# EAGLE library part TCA9536DGKR (library TCA9536DGKR)
TCA9536DGKR Source: Datasheet <https://www.ti.com/lit/ds/symlink/tca9536.pdf?ts=1641403369587&ref_url=https%3A%2F%2Fwww.ti.com%2Fproduct%2FTCA9536>
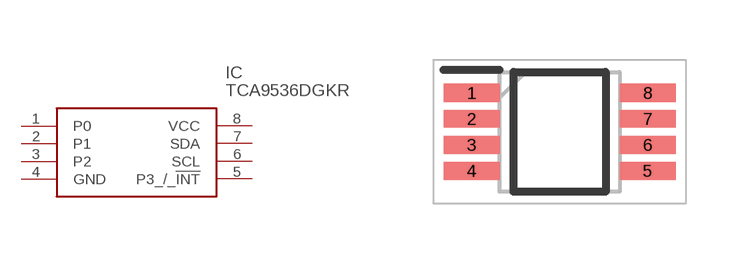
[diagram p0: symbol with the pads of SOP65P490X110-8N; footprint SOP65P490X110-8N]

Designator prefix IC

## TCA9536DGKR (Arrow_Part_Number: TCA9536DGKR; Arrow_Price-Stock: https://www.arrow.com/en/products/tca9536dgkr/texas-instruments?region=nac; Description: TCA9536DGKR; Height: 1.1mm; Manufacturer_Name: Texas Instruments; Manufacturer_Part_Number: TCA9536DGKR; Mouser_Part_Number: 595-TCA9536DGKR; Mouser_Price-Stock: https://www.mouser.co.uk/ProductDetail/Texas-Instruments/TCA9536DGKR?qs=doiCPypUmgHJyc0NMelqCA%3D%3D)  [SOP65P490X110-8N]
1  P0
2  P1
3  P2
4  GND
5  P3_/_!INT
6  SCL
7  SDA
8  VCC

## Footprint SOP65P490X110-8N (pad centres in mm)
DGK (S-PDSO-G8)
smd 1.4 x 0.45: 1 -2.2,0.975; 2 -2.2,0.325; 3 -2.2,-0.325; 4 -2.2,-0.975; 5 2.2,-0.975; 6 2.2,-0.325; 7 2.2,0.325; 8 2.2,0.975